# Altium footprint library KP234.PcbLib: 1 footprints
Each footprint in its own frame and in the unit in brackets; x right, y up, seen from the top. Pads: shape width x height; smd on the part's side, far side on the other; paste and mask are expansions set on the pad; w line width, h text height; cw(c..) or ccw(c..) is an arc to the next point about the centre after c.
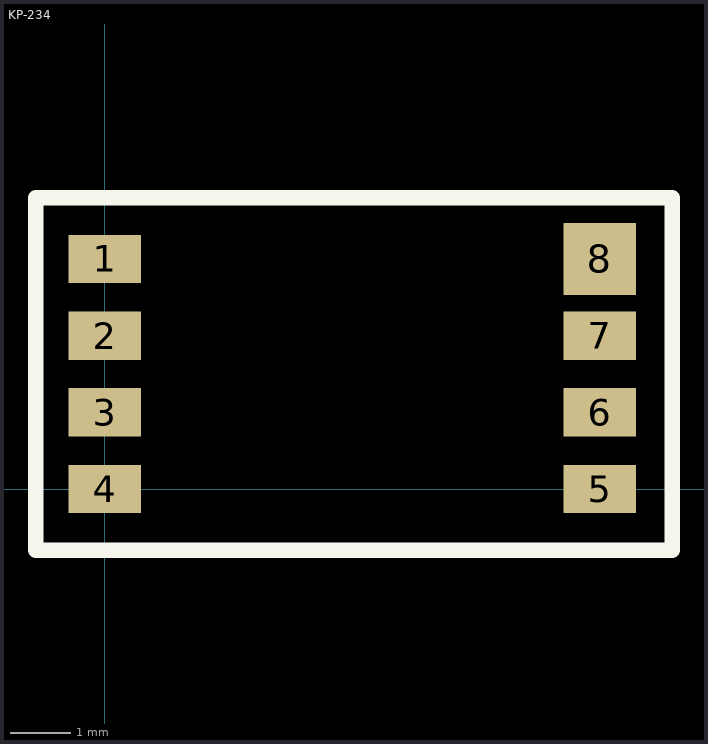
[diagram p0: the footprint, top view; thin cyan lines are the x and y axes]

## KP-234 [mm]
height 2.8
pads (8):
  rect 1.2x0.8 smd: 1(0,3.81) 2(0,2.54) 3(0,1.27) 4(0,0) 5(8.2,0) 6(8.2,1.27) 7(8.2,2.54)
  rect 1.2x1.2 smd: 8(8.2,3.81)
Top Overlay:
  lines w0.254: -1.143,-1.016 9.398,-1.016 9.398,4.826 -1.143,4.826 -1.143,-1.016